# EAGLE library part 74LVC2G17GW,125 (library pimoroni-ics)
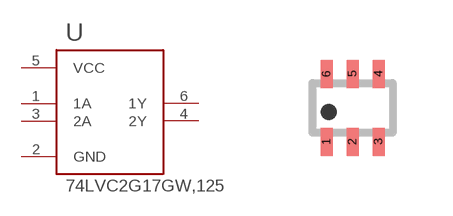
[diagram p70: symbol with the pads of SOT363_INFINEON; footprint SOT363_INFINEON]

Designator prefix U

## 74LVC2G17GW,125  [SOT363_INFINEON]
1  1A
2  GND
3  2A
4  2Y
5  VCC
6  1Y

## Footprint SOT363_INFINEON (pad centres in mm)
Small Outline Transistor; 6 leads Reflow soldering INFINEON, www.infineon.com/cmc_upload/0/000/010/257/eh_db_5b.pdf
smd 0.3 x 0.7: 1 -0.65,-0.85; 2 0,-0.85; 3 0.65,-0.85; 4 0.65,0.85; 5 0,0.85; 6 -0.65,0.85